# EAGLE library part RN4678_BT_MODULE (library RN4678 Bluetooth 4.2 Dual Mode)
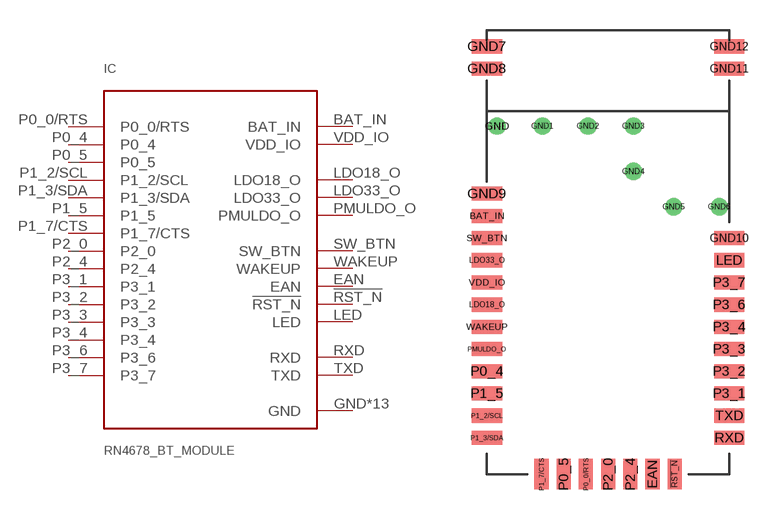
[diagram p0: symbol with the pads of SMT; footprint SMT]

Designator prefix IC

## RN4678_BT_MODULE  [SMT]
!RST_N!  !RST_N!  in
BAT_IN  BAT_IN  pwr
EAN  EAN  in
GND  GND  pwr
GND1  GND  pwr
GND2  GND  pwr
GND3  GND  pwr
GND4  GND  pwr
GND5  GND  pwr
GND6  GND  pwr
GND7  GND  pwr
GND8  GND  pwr
GND9  GND  pwr
GND10  GND  pwr
GND11  GND  pwr
GND12  GND  pwr
LDO18_O  LDO18_O  pwr
LDO33_O  LDO33_O  pwr
LED  LED  out
P0_0/RTS  P0_0/RTS
P0_4  P0_4  out
P0_5  P0_5
P1_2/SCL  P1_2/SCL  out
P1_3/SDA  P1_3/SDA
P1_5  P1_5  out
P1_7/CTS  P1_7/CTS
P2_0  P2_0  in
P2_4  P2_4  in
P3_1  P3_1
P3_2  P3_2
P3_3  P3_3
P3_4  P3_4
P3_6  P3_6
P3_7  P3_7
PMULDO_O  PMULDO_O  nc
RXD  RXD  in
SW_BTN  SW_BTN  in
TXD  TXD  out
VDD_IO  VDD_IO  pwr
WAKEUP  WAKEUP  in

## Footprint SMT (pad centres in mm)
smd 0.7 x 1.5: !RST_N! 9.3,0; EAN 8.2,0; P0_0/RTS 4.9,0; P0_5 3.8,0; P1_7/CTS 2.7,0; P2_0 6,0; P2_4 7.1,0
smd 1.5 x 0.7: BAT_IN 0,12.8; GND7 0,21.2; GND8 0,20.1; GND9 0,13.9; GND10 12,11.7; GND11 12,20.1; GND12 12,21.2; LDO18_O 0,8.4; LDO33_O 0,10.6; LED 12,10.6; P0_4 0,5.1; P1_2/SCL 0,2.9; P1_3/SDA 0,1.8; P1_5 0,4; P3_1 12,4; P3_2 12,5.1; P3_3 12,6.2; P3_4 12,7.3; P3_6 12,8.4; P3_7 12,9.5; PMULDO_O 0,6.2; RXD 12,1.8; SW_BTN 0,11.7; TXD 12,2.9; VDD_IO 0,9.5; WAKEUP 0,7.3
drill 0.35: GND 0.5,17.25; GND1 2.75,17.25; GND2 5,17.25; GND3 7.25,17.25; GND4 7.25,15; GND5 9.25,13.25; GND6 11.5,13.25